# EAGLE library part ISO6740FDWR (library ISO6740FDWR)
General-purpose, quad-channel, 4/0 digital isolator Source: Datasheet <https://www.ti.com/lit/gpn/iso6740>
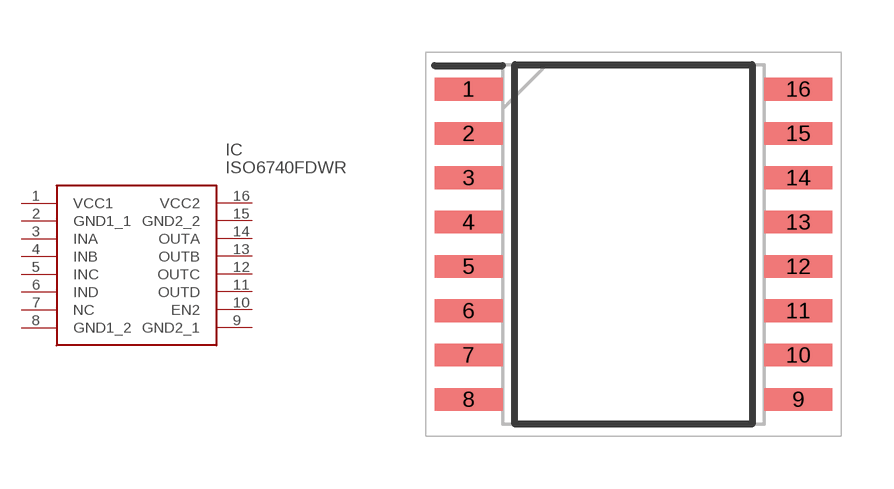
[diagram p0: symbol with the pads of SOIC127P1030X265-16N; footprint SOIC127P1030X265-16N]

Designator prefix IC

## ISO6740FDWR (Description: General-purpose, quad-channel, 4/0 digital isolator; Height: 2.65mm; Manufacturer_Name: Texas Instruments; Manufacturer_Part_Number: ISO6740FDWR; Mouser_Part_Number: 595-ISO6740FDWR; Mouser_Price-Stock: https://www.mouser.co.uk/ProductDetail/Texas-Instruments/ISO6740FDWR?qs=QNEnbhJQKvbxRK10ZtQXeg%3D%3D)  [SOIC127P1030X265-16N]
1  VCC1
2  GND1_1
3  INA
4  INB
5  INC
6  IND
7  NC  nc
8  GND1_2
9  GND2_1
10  EN2
11  OUTD
12  OUTC
13  OUTB
14  OUTA
15  GND2_2
16  VCC2

## Footprint SOIC127P1030X265-16N (pad centres in mm)
DW0016A HEIGHT2.65
smd 1.95 x 0.65: 1 -4.725,4.445; 2 -4.725,3.175; 3 -4.725,1.905; 4 -4.725,0.635; 5 -4.725,-0.635; 6 -4.725,-1.905; 7 -4.725,-3.175; 8 -4.725,-4.445; 9 4.725,-4.445; 10 4.725,-3.175; 11 4.725,-1.905; 12 4.725,-0.635; 13 4.725,0.635; 14 4.725,1.905; 15 4.725,3.175; 16 4.725,4.445